# EAGLE library part LM5146QRGYRQ1 (library ds_ic_vreg)
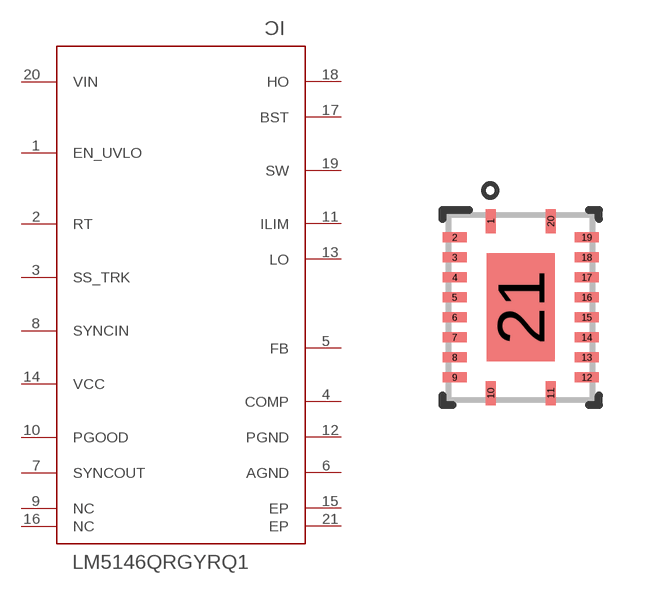
[diagram p8: symbol with the pads of RGY0020B; footprint RGY0020B]

Designator prefix IC

## LM5146QRGYRQ1 (DATASHEET: https://www.ti.com/lit/gpn/lm5146-q1; DESCRIPTION: Automotive 100-V synchronous buck DC/DC controller with wide duty-cycle range 20-VQFN -40 to 150; LCSC_PART: C1850329; MANUFACTURER: Texas Instruments; MPN: LM5146QRGYRQ1; ROHS: YES; VALUE: LM5146QRGYRQ1)  [RGY0020B]
1  EN_UVLO  in
2  RT  in
3  SS_TRK  in
4  COMP  pas
5  FB  in
6  AGND  pwr
7  SYNCOUT  out
8  SYNCIN  in
9  NC  pas
10  PGOOD  oc
11  ILIM  in
12  PGND  pwr
13  LO  out
14  VCC  pwr
15  EP  pwr
16  NC  pas
17  BST  pas
18  HO  out
19  SW  pwr
20  VIN  pwr
21  EP  pwr

## Footprint RGY0020B (pad centres in mm)
smd 0.25 x 0.6: 1 -0.75,2.15; 10 -0.75,-2.15; 11 0.75,-2.15; 20 0.75,2.15
smd 0.6 x 0.25: 2 -1.65,1.75; 3 -1.65,1.25; 4 -1.65,0.75; 5 -1.65,0.25; 6 -1.65,-0.25; 7 -1.65,-0.75; 8 -1.65,-1.25; 9 -1.65,-1.75; 12 1.65,-1.75; 13 1.65,-1.25; 14 1.65,-0.75; 15 1.65,-0.25; 16 1.65,0.25; 17 1.65,0.75; 18 1.65,1.25; 19 1.65,1.75
smd 1.7 x 2.7: 21 0,0